# Altium schematic symbol library Battery1072.SchLib: 1 symbol
Pins are listed as number, name and electrical type; pins without a type are passive.

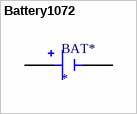
[diagram p0: symbol Battery1072]

## Battery1072
designator BAT*
footprint BAT_1072
pins: N NEG, P POS